# Altium footprint library Arduino_DUE_V02b.PcbLib: 41 footprints (part 2 of 3)
Each footprint in its own frame and in the unit in brackets; x right, y up, seen from the top. Pads: shape width x height; smd on the part's side, far side on the other; paste and mask are expansions set on the pad; w line width, h text height; cw(c..) or ccw(c..) is an arc to the next point about the centre after c.
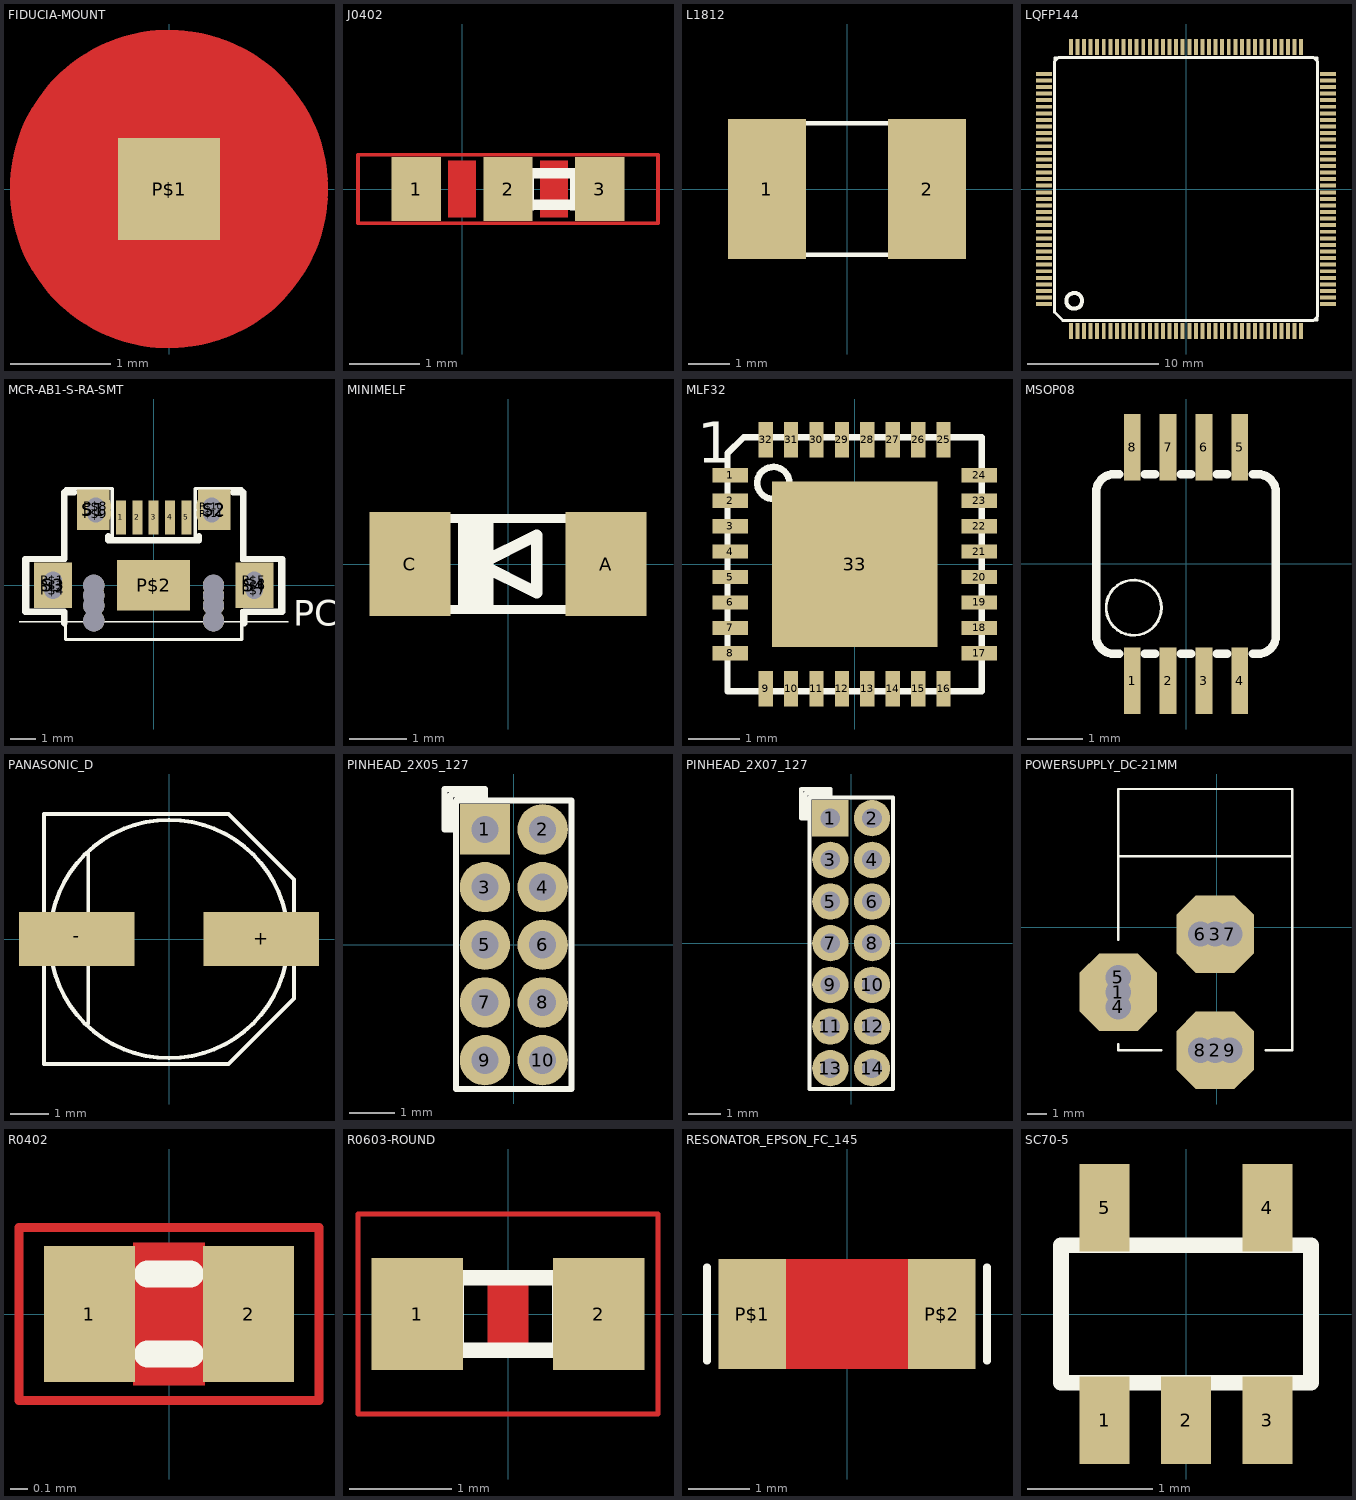
[diagram p1: the footprints below, top view; thin cyan lines are the x and y axes]

## FIDUCIA-MOUNT [mil]
pads (1):
  rect 40x40 smd: P$1(0,0)
Top Layer:
  circle w5: c0,0 r59.06
  circle w86: c0,0 r19.68

## J0402 [mm]
pads (3):
  rect 0.7x0.9 smd: 1(-0.65,0) 2(0.65,0) 3(1.95,0)
Top Layer:
  rectangle: 1.1,-0.4 1.5,0.4
  rectangle: -0.2,-0.4 0.2,0.4
  lines w0.051: -1.473,-0.483 -1.473,0.483 2.773,0.483 2.773,-0.483 -1.473,-0.483
Top Overlay:
  rectangle: 1.529,-0.305 1.829,0.295
  rectangle: 0.716,-0.305 1.016,0.295
  lines w0.152: 1.025,-0.224 1.515,-0.224 ; 1.025,0.224 1.515,0.224

## L1812 [mm]
pads (2):
  rect 1.9x3.4 smd: 1(-1.95,0) 2(1.95,0)
Top Overlay:
  rectangle: 1.448,-1.651 2.398,1.649
  rectangle: -2.388,-1.651 -1.438,1.649
  lines w0.102: -1.473,1.6 1.473,1.6 ; -1.448,-1.6 1.473,-1.6

## LQFP144 [mm]
pads (144):
  rect 0.3x1.2 smd: 1(-8.75,-10.8) 2(-8.25,-10.8) 3(-7.75,-10.8) 4(-7.25,-10.8) 5(-6.75,-10.8) 6(-6.25,-10.8) 7(-5.75,-10.8) 8(-5.25,-10.8) 9(-4.75,-10.8) 10(-4.25,-10.8) 11(-3.75,-10.8) 12(-3.25,-10.8) 13(-2.75,-10.8) 14(-2.25,-10.8) 15(-1.75,-10.8) 16(-1.25,-10.8) 17(-0.75,-10.8) 18(-0.25,-10.8) 19(0.25,-10.8) 20(0.75,-10.8) 21(1.25,-10.8) 22(1.75,-10.8) 23(2.25,-10.8) 24(2.75,-10.8) 25(3.25,-10.8) 26(3.75,-10.8) 27(4.25,-10.8) 28(4.75,-10.8) 29(5.25,-10.8) 30(5.75,-10.8) 31(6.25,-10.8) 32(6.75,-10.8) 33(7.25,-10.8) 34(7.75,-10.8) 35(8.25,-10.8) 36(8.75,-10.8) 73(8.75,10.8) 74(8.25,10.8) 75(7.75,10.8) 76(7.25,10.8) 77(6.75,10.8) 78(6.25,10.8) 79(5.75,10.8) 80(5.25,10.8) 81(4.75,10.8) 82(4.25,10.8) 83(3.75,10.8) 84(3.25,10.8) 85(2.75,10.8) 86(2.25,10.8) 87(1.75,10.8) 88(1.25,10.8) 89(0.75,10.8) 90(0.25,10.8) 91(-0.25,10.8) 92(-0.75,10.8) 93(-1.25,10.8) 94(-1.75,10.8) 95(-2.25,10.8) 96(-2.75,10.8) 97(-3.25,10.8) 98(-3.75,10.8) 99(-4.25,10.8) 100(-4.75,10.8) 101(-5.25,10.8) 102(-5.75,10.8) 103(-6.25,10.8) 104(-6.75,10.8) 105(-7.25,10.8) 106(-7.75,10.8) 107(-8.25,10.8) 108(-8.75,10.8)
  rect 1.2x0.3 smd: 37(10.8,-8.75) 38(10.8,-8.25) 39(10.8,-7.75) 40(10.8,-7.25) 41(10.8,-6.75) 42(10.8,-6.25) 43(10.8,-5.75) 44(10.8,-5.25) 45(10.8,-4.75) 46(10.8,-4.25) 47(10.8,-3.75) 48(10.8,-3.25) 49(10.8,-2.75) 50(10.8,-2.25) 51(10.8,-1.75) 52(10.8,-1.25) 53(10.8,-0.75) 54(10.8,-0.25) 55(10.8,0.25) 56(10.8,0.75) 57(10.8,1.25) 58(10.8,1.75) 59(10.8,2.25) 60(10.8,2.75) 61(10.8,3.25) 62(10.8,3.75) 63(10.8,4.25) 64(10.8,4.75) 65(10.8,5.25) 66(10.8,5.75) 67(10.8,6.25) 68(10.8,6.75) 69(10.8,7.25) 70(10.8,7.75) 71(10.8,8.25) 72(10.8,8.75) 109(-10.8,8.75) 110(-10.8,8.25) 111(-10.8,7.75) 112(-10.8,7.25) 113(-10.8,6.75) 114(-10.8,6.25) 115(-10.8,5.75) 116(-10.8,5.25) 117(-10.8,4.75) 118(-10.8,4.25) 119(-10.8,3.75) 120(-10.8,3.25) 121(-10.8,2.75) 122(-10.8,2.25) 123(-10.8,1.75) 124(-10.8,1.25) 125(-10.8,0.75) 126(-10.8,0.25) 127(-10.8,-0.25) 128(-10.8,-0.75) 129(-10.8,-1.25) 130(-10.8,-1.75) 131(-10.8,-2.25) 132(-10.8,-2.75) 133(-10.8,-3.25) 134(-10.8,-3.75) 135(-10.8,-4.25) 136(-10.8,-4.75) 137(-10.8,-5.25) 138(-10.8,-5.75) 139(-10.8,-6.25) 140(-10.8,-6.75) 141(-10.8,-7.25) 142(-10.8,-7.75) 143(-10.8,-8.25) 144(-10.8,-8.75)
Top Overlay:
  circle w0.305: c-8.5,-8.5 r0.6
  circle w0.305: c-8.5,-8.5 r0.6
  lines w0.127: -10,-9 -10,-9.4 -9.4,-10 -9,-10 ; -10,9 -10,10 -9,10 ; 9,-10 10,-10 10,-9.2 ; 9,10 10,10 10,9
  lines w0.203: -10,-9.365 -10,9.682 -9.682,10 9.682,10 10,9.682 10,-9.682 9.682,-10 -9.365,-10 -10,-9.365

## MCR-AB1-S-RA-SMT [mm]
pads (28):
  rect 0.4x1.35 smd: 1(-1.3,2.7) 2(-0.65,2.7) 3(0,2.7) 4(0.65,2.7) 5(1.3,2.7)
  round 1.208 hole 0.7: P$1(-4,0.2) P$3(-4,0) P$4(-4,-0.2) P$5(4,0.2) P$6(4,0) P$7(4,-0.2) P$8(-2.3,3.15) P$9(-2.3,2.85) P$10(2.3,3.15) P$11(2.3,2.85)
  rect 2.9x2 smd: P$2(0,0)
  rect 1.3x1.6 smd: S1(-2.4,3) S2(2.4,3)
  rect 1.5x1.8 smd: S3(-4,0) S4(4,0)
  round 0.85 on Top hole 0.85 unplated: ""(-2.375,-1.4) ""(-2.375,-0.8) ""(-2.375,-0.4) ""(-2.375,0) ""(2.375,-1.4) ""(2.375,-0.8) ""(2.375,-0.4) ""(2.375,0)
Top Layer:
  lines w0.075: -3.8,-0.525 -3.8,0.525
  text "DELETE SOLDER PADS" at 6.35,-3.81 h0.81
Top Overlay:
  lines w0.051: -5.35,-1.45 5.35,-1.45
  lines w0.127: -5,-1 -3.5,-1 -3.5,-2.15 3.5,-2.15 3.5,-1 5,-1 5,1 3.5,1 3.5,3.85 1.65,3.85 1.65,1.85 -1.65,1.85 -1.65,3.85 -3.5,3.85 -3.5,1 -5,1 -5,-1
  lines w0.254: -3.55,-1.5 -3.55,-1.05 -5.1,-1.05 -5.1,1.05 -3.55,1.05 -3.55,3.7 -3.15,3.7 ; -1.8,1.95 -1.8,1.8 -1.75,1.8 ; -1.7,1.8 1.75,1.8 ; 1.8,1.8 1.8,1.95 ; 3.15,3.7 3.55,3.7 3.55,1.05 5.1,1.05 5.1,-1.05 3.6,-1.05 3.6,-1.5
  text "PCB" at 5.55,-1.6 h1.02

## MINIMELF [mm]
pads (2):
  rect 1.4x1.8 smd: A(1.7,0) C(-1.7,0)
Top Overlay:
  rectangle: -0.864,-0.787 -0.254,0.787
  rectangle: 1.295,-0.864 1.854,0.864
  rectangle: -1.854,-0.864 -1.295,0.864
  lines w0.152: -1.321,-0.787 1.321,-0.787 ; -1.321,0.787 1.321,0.787
  lines w0.203: -0.5,0 0.5,-0.5 0.5,0.5 -0.5,0

## MLF32 [mm]
pads (33):
  rect 0.7x0.28 smd: 1(-2.45,1.75) 2(-2.45,1.25) 3(-2.45,0.75) 4(-2.45,0.25) 5(-2.45,-0.25) 6(-2.45,-0.75) 7(-2.45,-1.25) 8(-2.45,-1.75) 17(2.45,-1.75) 18(2.45,-1.25) 19(2.45,-0.75) 20(2.45,-0.25) 21(2.45,0.25) 22(2.45,0.75) 23(2.45,1.25) 24(2.45,1.75)
  rect 0.28x0.7 smd: 9(-1.75,-2.45) 10(-1.25,-2.45) 11(-0.75,-2.45) 12(-0.25,-2.45) 13(0.25,-2.45) 14(0.75,-2.45) 15(1.25,-2.45) 16(1.75,-2.45) 25(1.75,2.45) 26(1.25,2.45) 27(0.75,2.45) 28(0.25,2.45) 29(-0.25,2.45) 30(-0.75,2.45) 31(-1.25,2.45) 32(-1.75,2.45)
  rect 3.254x3.254 smd: 33(0,0)
Top Layer:
  rectangle: -0.635,-0.635 0.635,0.635
Top Overlay:
  circle w0.127: c-1.6,1.6 r0.316
  lines w0.127: -2.5,-2.5 -2.5,2.183 -2.183,2.5 2.5,2.5 2.5,-2.5 -2.5,-2.5
  text "1" at -3.1,2 h0.81

## MSOP08 [mm]
pads (8):
  rect 0.3x1.2 smd: 1(-0.976,-2.113) 2(-0.326,-2.113) 3(0.324,-2.113) 4(0.974,-2.113) 5(0.974,2.112) 6(0.324,2.112) 7(-0.326,2.112) 8(-0.976,2.112)
Top Overlay:
  circle w0.051: c-0.946,-0.791 r0.5
  rectangle: 0.853,-2.357 1.096,-1.626
  rectangle: 0.203,-2.357 0.446,-1.626
  rectangle: -0.447,-2.357 -0.204,-1.626
  rectangle: -1.097,-2.357 -0.854,-1.625
  rectangle: 0.853,1.624 1.096,2.356
  rectangle: 0.203,1.624 0.446,2.356
  rectangle: -0.447,1.624 -0.204,2.356
  rectangle: -1.098,1.624 -0.854,2.356
  lines w0.152: -1.341,-1.626 -1.204,-1.626 ; -1.301,-1.626 cw(c-1.301,-1.301) -1.626,-1.301 -1.626,1.299 cw(c-1.301,1.299) -1.301,1.624 -1.204,1.624 ; -0.747,-1.626 -0.554,-1.626 ; -0.747,1.624 -0.554,1.624 ; -0.097,-1.626 0.096,-1.626 ; -0.097,1.624 0.096,1.624 ; 0.553,-1.626 0.746,-1.626 ; 0.553,1.624 0.746,1.624 ; 1.203,-1.626 1.299,-1.626 ccw(c1.299,-1.301) 1.624,-1.301 1.624,1.299 ccw(c1.299,1.299) 1.299,1.624 1.203,1.624

## PANASONIC_D [mm]
pads (2):
  rect 3x1.4 smd: +(2.4,0) -(-2.4,0)
Top Overlay:
  circle w0.102: c0,0 r3.1
  rectangle: -3.65,-0.35 -3.05,0.35
  rectangle: 3.05,-0.35 3.65,0.35
  lines w0.102: -3.25,-0.95 -3.25,-3.25 ; -3.25,0.95 -3.25,3.25 ; -2.95,-0.95 ccw(c0,0) 2.95,-0.95 ; -2.95,0.95 cw(c0,0) 2.95,0.95 ; -2.1,-2.2 -2.1,2.25 ; 3.25,-0.95 3.25,-1.55 ; 3.25,0.95 3.25,1.55 ; -3.25,-3.25 1.55,-3.25 ; -3.25,-3.25 -3.25,3.25 ; -3.25,-3.25 1.55,-3.25 ; -3.25,3.25 1.55,3.25 ; -3.25,3.25 1.55,3.25 ; 1.55,-3.25 3.25,-1.55 ; 1.55,-3.25 3.25,-1.55 ; 1.55,3.25 3.25,1.55 ; 1.55,3.25 3.25,1.55 ; 3.25,-1.55 3.25,1.55

## PINHEAD_2X05_127 [mm]
pads (10):
  rect 1.108x1.108 hole 0.6: 1(-0.635,2.54)
  round 1.108 hole 0.6: 2(0.635,2.54) 3(-0.635,1.27) 4(0.635,1.27) 5(-0.635,0) 6(0.635,0) 7(-0.635,-1.27) 8(0.635,-1.27) 9(-0.635,-2.54) 10(0.635,-2.54)
Top Overlay:
  lines w0.127: -0.762,2.667 -0.762,2.413 -0.635,2.413 ; -1.27,-3.175 -1.27,3.175 ; -1.27,-3.175 1.27,-3.175 ; -1.27,-3.175 -1.27,2.54 ; -1.27,-3.175 1.27,-3.175 ; -1.27,2.54 -1.524,2.54 -1.524,3.429 -0.635,3.429 -0.635,3.175 ; -1.27,2.54 -1.397,2.54 -1.397,3.302 -0.635,3.302 -0.635,3.175 ; -1.27,2.54 -1.27,3.175 ; -1.27,3.175 1.27,3.175 ; -1.27,3.175 -0.635,3.175 ; -0.635,2.413 -0.635,2.667 -0.508,2.667 -0.508,2.413 -0.635,2.413 ; -0.635,3.175 1.27,3.175 ; 1.27,-3.175 1.27,3.175 ; 1.27,-3.175 1.27,3.175 ; -1.016,2.159 -1.016,2.921 -0.254,2.921 -0.254,2.159 -1.016,2.159 ; -0.889,2.286 -0.381,2.286 -0.381,2.794 -0.889,2.794 -0.889,2.286

## PINHEAD_2X07_127 [mm]
pads (14):
  rect 1.108x1.108 hole 0.6: 1(-0.635,3.81)
  round 1.108 hole 0.6: 2(0.635,3.81) 3(-0.635,2.54) 4(0.635,2.54) 5(-0.635,1.27) 6(0.635,1.27) 7(-0.635,0) 8(0.635,0) 9(-0.635,-1.27) 10(0.635,-1.27) 11(-0.635,-2.54) 12(0.635,-2.54) 13(-0.635,-3.81) 14(0.635,-3.81)
Top Overlay:
  lines w0.127: -0.635,3.81 -0.762,3.81 -0.762,3.683 -0.508,3.683 -0.508,3.937 -0.889,3.937 ; -1.397,3.81 -1.397,4.572 -0.635,4.572 ; -1.397,3.81 -1.524,3.81 -1.524,4.699 -0.635,4.699 -0.635,4.572 ; -1.397,3.81 -1.27,3.81 ; -1.27,-4.445 -1.27,3.81 ; -1.27,-4.445 1.27,-4.445 ; -1.27,-4.445 -1.27,4.445 ; -1.27,-4.445 1.27,-4.445 ; -1.27,3.81 -1.27,4.445 ; -1.27,4.445 -0.635,4.445 ; -1.27,4.445 1.27,4.445 ; -1.016,4.191 -1.016,4.064 -0.889,4.064 ; -1.016,4.191 -1.016,3.429 -0.254,3.429 -0.254,4.191 -1.016,4.191 ; -0.889,3.937 -0.889,4.064 ; -0.889,3.937 -0.889,4.064 ; -0.889,3.937 -0.889,3.556 -0.381,3.556 -0.381,4.064 -0.889,4.064 ; -0.635,4.445 -0.635,4.572 ; -0.635,4.445 -0.635,4.572 ; -0.635,4.445 1.27,4.445 ; 1.27,-4.445 1.27,4.445 ; 1.27,-4.445 1.27,4.445

## POWERSUPPLY_DC-21MM [mm]
pads (9):
  oct 4x4 hole 1.3: 1(-5.08,-3.353) 2(-0.076,-6.35) 3(-0.076,-0.356)
  round 1.95 hole 1.3: 4(-5.08,-4.115) 5(-5.08,-2.591) 6(-0.838,-0.356) 7(0.686,-0.356) 8(-0.838,-6.35) 9(0.686,-6.35)
Top Overlay:
  lines w0.127: -5.08,-6.032 -5.08,-6.35 -2.857,-6.35 ; -5.08,-0.635 -5.08,7.137 3.912,7.137 3.912,3.658 ; -5.055,3.658 3.912,3.658 ; 2.54,-6.35 3.912,-6.35 3.912,3.658

## R0402 [mil]
pads (2):
  rect 20x30 smd: 1(-17.5,0) 2(17.5,0)
Top Layer:
  rectangle: -7.87,-15.75 7.87,15.75
  lines w2: -32.99,-19.02 -32.99,19.02 32.99,19.02 32.99,-19.02 -32.99,-19.02
Top Overlay:
  rectangle: 10,-10 20,10
  rectangle: -20,-10 -10,10
  lines w6: -4.65,-8.82 4.65,-8.82 ; -4.65,8.82 4.65,8.82

## R0603-ROUND [mm]
pads (2):
  rect 0.898x1.1 smd: 1(-0.889,0) 2(0.889,0)
Top Layer:
  rectangle: -0.2,-0.4 0.2,0.4
  lines w0.051: -1.473,-0.983 -1.473,0.983 1.473,0.983 1.473,-0.983 -1.473,-0.983
Top Overlay:
  rectangle: -0.838,-0.432 -0.432,0.432
  rectangle: 0.432,-0.432 0.838,0.432
  lines w0.152: -0.432,-0.356 0.432,-0.356 ; -0.432,0.356 0.432,0.356

## RESONATOR_EPSON_FC_145 [mm]
pads (2):
  rect 1.1x1.8 smd: P$1(-1.55,0) P$2(1.55,0)
Top Layer:
  rectangle: -1,-0.9 1,0.9
  rectangle: -1,-0.9 1,0.9
  rectangle: -1,-0.9 1,0.9
Top Overlay:
  lines w0.127: -2.286,-0.762 -2.286,0.762 ; 2.286,-0.762 2.286,0.762

## SC70-5 [mm]
pads (5):
  rect 0.4x0.7 smd: 1(-0.65,-0.85) 2(0,-0.85) 3(0.65,-0.85) 4(0.65,0.85) 5(-0.65,0.85)
Top Overlay:
  rectangle: 0.525,0.6 0.775,1.05
  rectangle: -0.775,0.6 -0.525,1.05
  rectangle: 0.525,-1.05 0.775,-0.6
  rectangle: -0.775,-1.05 -0.525,-0.6
  rectangle: -0.125,-1.05 0.125,-0.6
  lines w0.127: -1,-0.55 1,-0.55 1,0.55 -1,0.55 -1,-0.55